# Altium integrated library Microchip Microcontroller 8-Bit PIC18.IntLib: 436 symbols (part 16 of 20)
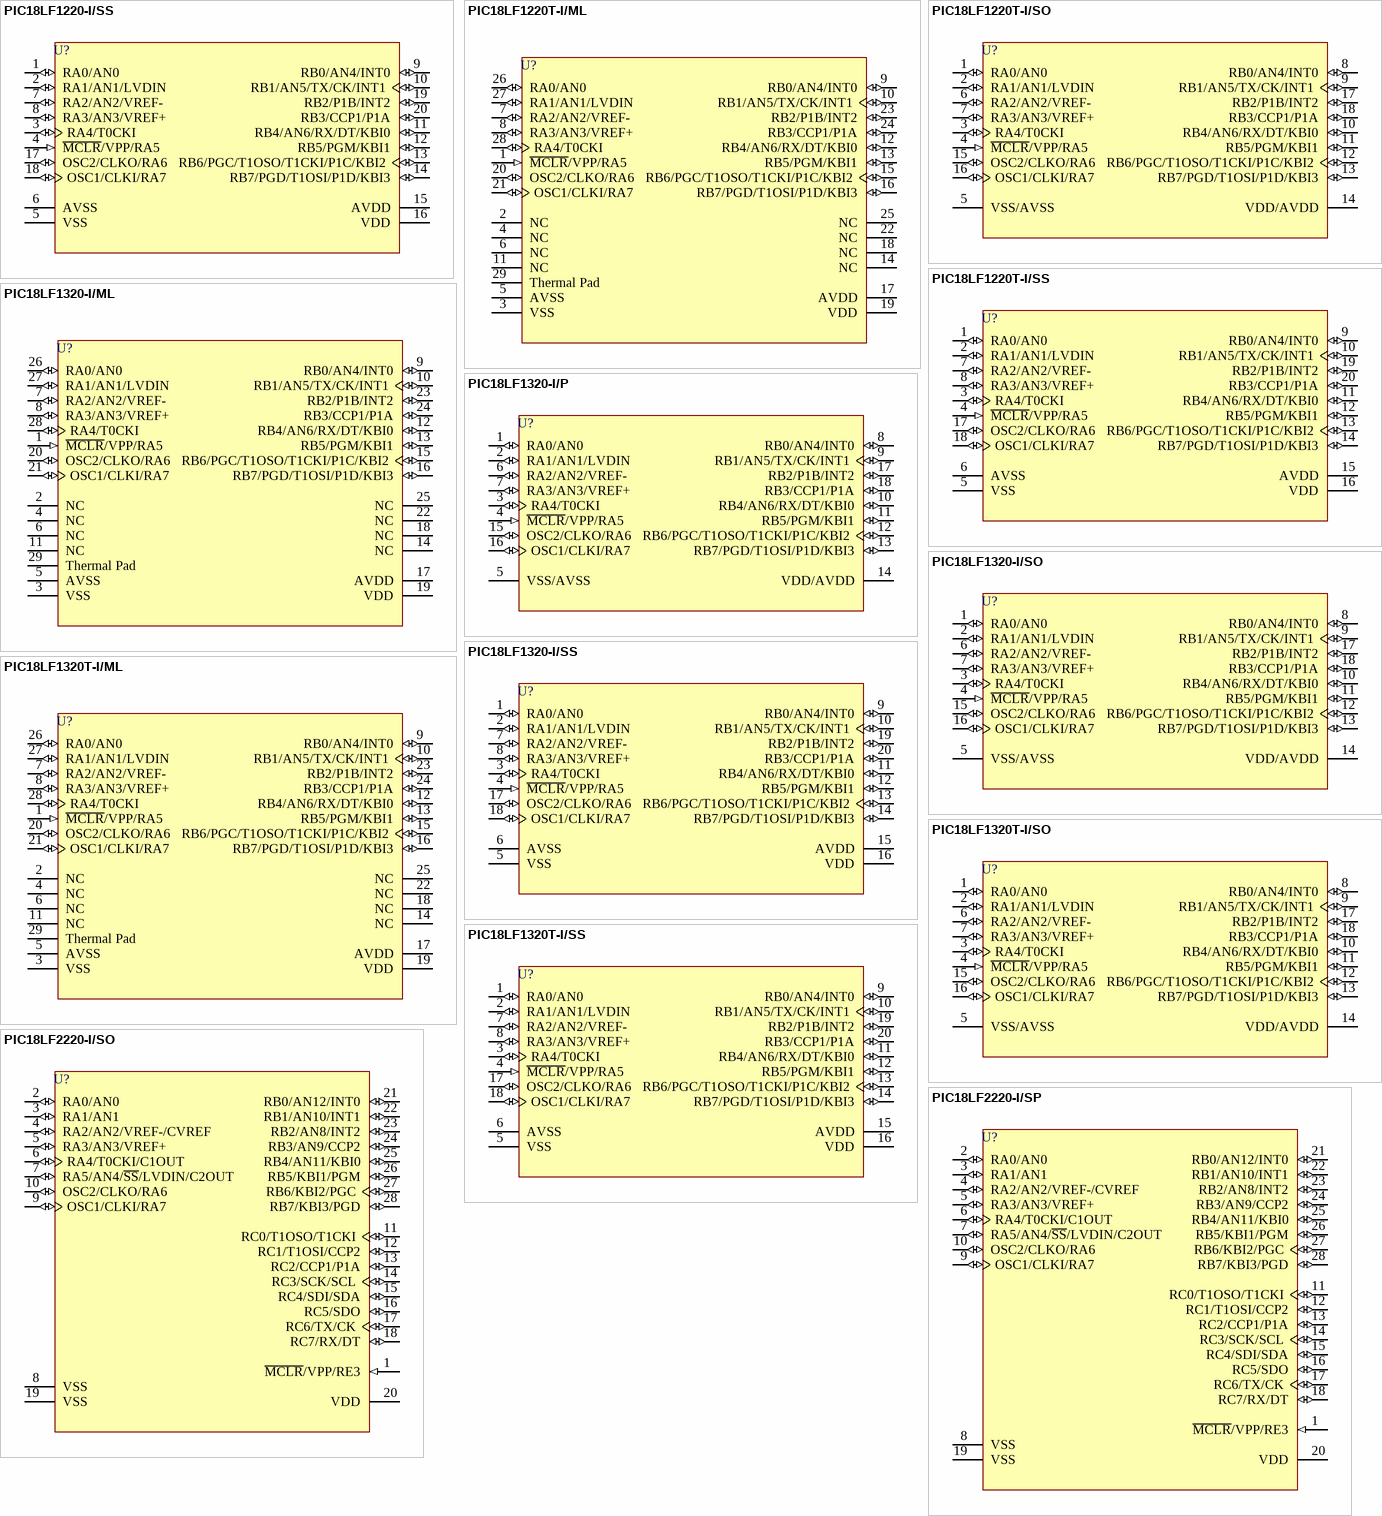
[diagram p69: symbols PIC18LF1220-I/SS to PIC18LF2220-I/SP]

## PIC18LF1220-I/SS
designator U?
High Performance, Enhanced FLASH Microcontroller with 10-Bit A/D and nanoWatt Technology, 4K FLASH, 20-Pin SSOP, Wide Volt Range, Industrial Temperature; Note: RA5 is available only when the M\C\L\R\ Resets are disabled.; Note: OSC1, OSC2, CLKI and CLKO are only available in select Oscillator modes and when these pins are not being used as digital I/O.; Published: 11-Oct-2004; LatestRevisionDate: 04-Mar-2005; LatestRevisionNote: Stylized 3D Model Added.; DatasheetVersion: DS39605B_2002; PackageVersion: 2003; PackageReference: SSOP-20; Publisher: Altium Limited; PackageDescription: SSOP, Plastic; 20 Leads; Body Width 5.3 mm; Pitch 0.65 mm; Code_JEDEC: MO-150; ComponentLink1Description: Manufacturer Link; ComponentLink1URL: http://www.microchip.com; ComponentLink2Description: Datasheet; ComponentLink2URL: http://ww1.microchip.com/downloads/en/DeviceDoc/39605b.pdf; ComponentLink3Description: Packaging Specification; ComponentLink3URL: http://ww1.microchip.com/downloads/en/PackagingSpec/00049AD.pdf
footprint SSOP-20 (SSOP, Plastic; 20 Leads; Body Width 5.3 mm; Pitch 0.65 mm)
3D model SSOP-20 (SSOP, Plastic; 20 Leads; Body Width 5.3 mm; Pitch 0.65 mm)
pins: 1 RA0/AN0 (io), 2 RA1/AN1/LVDIN (io), 3 RA4/T0CKI (io), 4 ~{MCLR}/VPP/RA5 (in), 5 VSS (power), 6 AVSS (power), 7 RA2/AN2/VREF- (io), 8 RA3/AN3/VREF+ (io), 9 RB0/AN4/INT0 (io), 10 RB1/AN5/TX/CK/INT1 (io), 11 RB4/AN6/RX/DT/KBI0 (io), 12 RB5/PGM/KBI1 (io), 13 RB6/PGC/T1OSO/T1CKI/P1C/KBI2 (io), 14 RB7/PGD/T1OSI/P1D/KBI3 (io), 15 AVDD (power), 16 VDD (power), 17 OSC2/CLKO/RA6 (io), 18 OSC1/CLKI/RA7 (io), 19 RB2/P1B/INT2 (io), 20 RB3/CCP1/P1A (io)

## PIC18LF1220T-I/ML
designator U?
High Performance, Enhanced FLASH Microcontroller with 10-Bit A/D and nanoWatt Technology, 4K FLASH, 28-Pin QFN, Wide Volt Range, Industrial Temperature, Tape and Reel; Note: RA5 is available only when the M\C\L\R\ Resets are disabled.; Note: OSC1, OSC2, CLKI and CLKO are only available in select Oscillator modes and when these pins are not being used as digital I/O.; Published: 11-Oct-2004; LatestRevisionDate: 13-Apr-2006; LatestRevisionNote: IPC-7351 Footprint Added.; DatasheetVersion: DS39605B_2002; PackageVersion: 2003; PackageReference: QFN-P28; Publisher: Altium Limited; PackageDescription: 28-Pin Punch Version Quad Flat No-Lead 0.65 mm Pitch; Code_JEDEC: MO-220; Code_IPC: QFN65P600X600-28V; ComponentLink1Description: Manufacturer Link; ComponentLink1URL: http://www.microchip.com; ComponentLink2Description: Datasheet; ComponentLink2URL: http://ww1.microchip.com/downloads/en/DeviceDoc/39605b.pdf; ComponentLink3Description: Packaging Specification; ComponentLink3URL: http://ww1.microchip.com/downloads/en/PackagingSpec/00049AD.pdf
footprint QFN-P28_N (QFN, 28-Leads, Body 6x6 mm, Pitch 0.65mm, IPC Medium Density)
footprint QFN-P28_L (QFN, 28-Leads, Body 6x6 mm, Pitch 0.65mm, IPC High Density)
footprint QFN-P28_M (QFN, 28-Leads, Body 6x6 mm, Pitch 0.65mm, IPC Low Density)
pins: 1 ~{MCLR}/VPP/RA5 (in), 2 NC, 3 VSS (power), 4 NC, 5 AVSS (power), 6 NC, 7 RA2/AN2/VREF- (io), 8 RA3/AN3/VREF+ (io), 9 RB0/AN4/INT0 (io), 10 RB1/AN5/TX/CK/INT1 (io), 11 NC, 12 RB4/AN6/RX/DT/KBI0 (io), 13 RB5/PGM/KBI1 (io), 14 NC, 15 RB6/PGC/T1OSO/T1CKI/P1C/KBI2 (io), 16 RB7/PGD/T1OSI/P1D/KBI3 (io), 17 AVDD (power), 18 NC, 19 VDD (power), 20 OSC2/CLKO/RA6 (io), 21 OSC1/CLKI/RA7 (io), 22 NC, 23 RB2/P1B/INT2 (io), 24 RB3/CCP1/P1A (io), 25 NC, 26 RA0/AN0 (io), 27 RA1/AN1/LVDIN (io), 28 RA4/T0CKI (io), 29 Thermal Pad (power)

## PIC18LF1220T-I/SO
designator U?
High Performance, Enhanced FLASH Microcontroller with 10-Bit A/D and nanoWatt Technology, 4K FLASH, 18-Pin SOIC, Wide Volt Range, Industrial Temperature, Tape and Reel; Note: RA5 is available only when the M\C\L\R\ Resets are disabled.; Note: OSC1, OSC2, CLKI and CLKO are only available in select Oscillator modes and when these pins are not being used as digital I/O.; Published: 11-Oct-2004; LatestRevisionDate: 13-Apr-2006; LatestRevisionNote: IPC-7351 Footprint Added.; DatasheetVersion: DS39605B_2002; PackageVersion: 2003; PackageReference: SOIC300-18; Publisher: Altium Limited; PackageDescription: 18-Pin Small Outline Integrated Circuit 1.27 mm Pitch; Code_JEDEC: MS-013; ComponentLink1Description: Manufacturer Link; ComponentLink1URL: http://www.microchip.com; ComponentLink2Description: Datasheet; ComponentLink2URL: http://ww1.microchip.com/downloads/en/DeviceDoc/39605b.pdf; ComponentLink3Description: Packaging Specification; ComponentLink3URL: http://ww1.microchip.com/downloads/en/PackagingSpec/00049AD.pdf
footprint SOIC300-18_N (SOIC, 18-Leads, Body 11.5x7.5mm, Pitch 1.27mm, IPC Medium Density)
footprint SOIC300-18_L (SOIC, 18-Leads, Body 11.5x7.5mm, Pitch 1.27mm, IPC High Density)
footprint SOIC300-18_M (SOIC, 18-Leads, Body 11.5x7.5mm, Pitch 1.27mm, IPC Low Density)
3D model SOIC300-18 (18-Pin Small Outline Integrated Circuit 1.27 mm Pitch)
pins: 1 RA0/AN0 (io), 2 RA1/AN1/LVDIN (io), 3 RA4/T0CKI (io), 4 ~{MCLR}/VPP/RA5 (in), 5 VSS/AVSS (power), 6 RA2/AN2/VREF- (io), 7 RA3/AN3/VREF+ (io), 8 RB0/AN4/INT0 (io), 9 RB1/AN5/TX/CK/INT1 (io), 10 RB4/AN6/RX/DT/KBI0 (io), 11 RB5/PGM/KBI1 (io), 12 RB6/PGC/T1OSO/T1CKI/P1C/KBI2 (io), 13 RB7/PGD/T1OSI/P1D/KBI3 (io), 14 VDD/AVDD (power), 15 OSC2/CLKO/RA6 (io), 16 OSC1/CLKI/RA7 (io), 17 RB2/P1B/INT2 (io), 18 RB3/CCP1/P1A (io)

## PIC18LF1220T-I/SS
designator U?
High Performance, Enhanced FLASH Microcontroller with 10-Bit A/D and nanoWatt Technology, 4K FLASH, 20-Pin SSOP, Wide Volt Range, Industrial Temperature, Tape and Reel; Note: RA5 is available only when the M\C\L\R\ Resets are disabled.; Note: OSC1, OSC2, CLKI and CLKO are only available in select Oscillator modes and when these pins are not being used as digital I/O.; Published: 11-Oct-2004; LatestRevisionDate: 04-Mar-2005; LatestRevisionNote: Stylized 3D Model Added.; DatasheetVersion: DS39605B_2002; PackageVersion: 2003; PackageReference: SSOP-20; Publisher: Altium Limited; PackageDescription: SSOP, Plastic; 20 Leads; Body Width 5.3 mm; Pitch 0.65 mm; Code_JEDEC: MO-150; ComponentLink1Description: Manufacturer Link; ComponentLink1URL: http://www.microchip.com; ComponentLink2Description: Datasheet; ComponentLink2URL: http://ww1.microchip.com/downloads/en/DeviceDoc/39605b.pdf; ComponentLink3Description: Packaging Specification; ComponentLink3URL: http://ww1.microchip.com/downloads/en/PackagingSpec/00049AD.pdf
footprint SSOP-20 (SSOP, Plastic; 20 Leads; Body Width 5.3 mm; Pitch 0.65 mm)
3D model SSOP-20 (SSOP, Plastic; 20 Leads; Body Width 5.3 mm; Pitch 0.65 mm)
pins: 1 RA0/AN0 (io), 2 RA1/AN1/LVDIN (io), 3 RA4/T0CKI (io), 4 ~{MCLR}/VPP/RA5 (in), 5 VSS (power), 6 AVSS (power), 7 RA2/AN2/VREF- (io), 8 RA3/AN3/VREF+ (io), 9 RB0/AN4/INT0 (io), 10 RB1/AN5/TX/CK/INT1 (io), 11 RB4/AN6/RX/DT/KBI0 (io), 12 RB5/PGM/KBI1 (io), 13 RB6/PGC/T1OSO/T1CKI/P1C/KBI2 (io), 14 RB7/PGD/T1OSI/P1D/KBI3 (io), 15 AVDD (power), 16 VDD (power), 17 OSC2/CLKO/RA6 (io), 18 OSC1/CLKI/RA7 (io), 19 RB2/P1B/INT2 (io), 20 RB3/CCP1/P1A (io)

## PIC18LF1320-I/ML
designator U?
High Performance, Enhanced FLASH Microcontroller with 10-Bit A/D and nanoWatt Technology, 8K FLASH, 28-Pin QFN, Wide Volt Range, Industrial Temperature; Note: RA5 is available only when the M\C\L\R\ Resets are disabled.; Note: OSC1, OSC2, CLKI and CLKO are only available in select Oscillator modes and when these pins are not being used as digital I/O.; Published: 11-Oct-2004; LatestRevisionDate: 13-Apr-2006; LatestRevisionNote: IPC-7351 Footprint Added.; DatasheetVersion: DS39605B_2002; PackageVersion: 2003; PackageReference: QFN-P28; Publisher: Altium Limited; PackageDescription: 28-Pin Punch Version Quad Flat No-Lead 0.65 mm Pitch; Code_JEDEC: MO-220; Code_IPC: QFN65P600X600-28V; ComponentLink1Description: Manufacturer Link; ComponentLink1URL: http://www.microchip.com; ComponentLink2Description: Datasheet; ComponentLink2URL: http://ww1.microchip.com/downloads/en/DeviceDoc/39605b.pdf; ComponentLink3Description: Packaging Specification; ComponentLink3URL: http://ww1.microchip.com/downloads/en/PackagingSpec/00049AD.pdf
footprint QFN-P28_N (QFN, 28-Leads, Body 6x6 mm, Pitch 0.65mm, IPC Medium Density)
footprint QFN-P28_L (QFN, 28-Leads, Body 6x6 mm, Pitch 0.65mm, IPC High Density)
footprint QFN-P28_M (QFN, 28-Leads, Body 6x6 mm, Pitch 0.65mm, IPC Low Density)
pins: 1 ~{MCLR}/VPP/RA5 (in), 2 NC, 3 VSS (power), 4 NC, 5 AVSS (power), 6 NC, 7 RA2/AN2/VREF- (io), 8 RA3/AN3/VREF+ (io), 9 RB0/AN4/INT0 (io), 10 RB1/AN5/TX/CK/INT1 (io), 11 NC, 12 RB4/AN6/RX/DT/KBI0 (io), 13 RB5/PGM/KBI1 (io), 14 NC, 15 RB6/PGC/T1OSO/T1CKI/P1C/KBI2 (io), 16 RB7/PGD/T1OSI/P1D/KBI3 (io), 17 AVDD (power), 18 NC, 19 VDD (power), 20 OSC2/CLKO/RA6 (io), 21 OSC1/CLKI/RA7 (io), 22 NC, 23 RB2/P1B/INT2 (io), 24 RB3/CCP1/P1A (io), 25 NC, 26 RA0/AN0 (io), 27 RA1/AN1/LVDIN (io), 28 RA4/T0CKI (io), 29 Thermal Pad (power)

## PIC18LF1320-I/P
designator U?
High Performance, Enhanced FLASH Microcontroller with 10-Bit A/D and nanoWatt Technology, 8K FLASH, 18-Pin PDIP, Wide Volt Range, Industrial Temperature; Note: RA5 is available only when the M\C\L\R\ Resets are disabled.; Note: OSC1, OSC2, CLKI and CLKO are only available in select Oscillator modes and when these pins are not being used as digital I/O.; Published: 11-Oct-2004; LatestRevisionDate: 04-Mar-2005; LatestRevisionNote: Stylized 3D Model Added.; DatasheetVersion: DS39605B_2002; PackageVersion: 2003; PackageReference: PDIP300-18; Publisher: Altium Limited; PackageDescription: DIP, Plastic; 18 Leads; Row Spacing 7.62 mm; Pitch 2.54 mm; Code_JEDEC: MS-001; ComponentLink1Description: Manufacturer Link; ComponentLink1URL: http://www.microchip.com; ComponentLink2Description: Datasheet; ComponentLink2URL: http://ww1.microchip.com/downloads/en/DeviceDoc/39605b.pdf; ComponentLink3Description: Packaging Specification; ComponentLink3URL: http://ww1.microchip.com/downloads/en/PackagingSpec/00049AD.pdf
footprint PDIP300-18 (DIP, Plastic; 18 Leads; Row Spacing 7.62 mm; Pitch 2.54 mm)
3D model PDIP300-18 (DIP, Plastic; 18 Leads; Row Spacing 7.62 mm; Pitch 2.54 mm)
pins: 1 RA0/AN0 (io), 2 RA1/AN1/LVDIN (io), 3 RA4/T0CKI (io), 4 ~{MCLR}/VPP/RA5 (in), 5 VSS/AVSS (power), 6 RA2/AN2/VREF- (io), 7 RA3/AN3/VREF+ (io), 8 RB0/AN4/INT0 (io), 9 RB1/AN5/TX/CK/INT1 (io), 10 RB4/AN6/RX/DT/KBI0 (io), 11 RB5/PGM/KBI1 (io), 12 RB6/PGC/T1OSO/T1CKI/P1C/KBI2 (io), 13 RB7/PGD/T1OSI/P1D/KBI3 (io), 14 VDD/AVDD (power), 15 OSC2/CLKO/RA6 (io), 16 OSC1/CLKI/RA7 (io), 17 RB2/P1B/INT2 (io), 18 RB3/CCP1/P1A (io)

## PIC18LF1320-I/SO
designator U?
High Performance, Enhanced FLASH Microcontroller with 10-Bit A/D and nanoWatt Technology, 8K FLASH, 18-Pin SOIC, Wide Volt Range, Industrial Temperature; Note: RA5 is available only when the M\C\L\R\ Resets are disabled.; Note: OSC1, OSC2, CLKI and CLKO are only available in select Oscillator modes and when these pins are not being used as digital I/O.; Published: 11-Oct-2004; LatestRevisionDate: 13-Apr-2006; LatestRevisionNote: IPC-7351 Footprint Added.; DatasheetVersion: DS39605B_2002; PackageVersion: 2003; PackageReference: SOIC300-18; Publisher: Altium Limited; PackageDescription: 18-Pin Small Outline Integrated Circuit 1.27 mm Pitch; Code_JEDEC: MS-013; ComponentLink1Description: Manufacturer Link; ComponentLink1URL: http://www.microchip.com; ComponentLink2Description: Datasheet; ComponentLink2URL: http://ww1.microchip.com/downloads/en/DeviceDoc/39605b.pdf; ComponentLink3Description: Packaging Specification; ComponentLink3URL: http://ww1.microchip.com/downloads/en/PackagingSpec/00049AD.pdf
footprint SOIC300-18_N (SOIC, 18-Leads, Body 11.5x7.5mm, Pitch 1.27mm, IPC Medium Density)
footprint SOIC300-18_L (SOIC, 18-Leads, Body 11.5x7.5mm, Pitch 1.27mm, IPC High Density)
footprint SOIC300-18_M (SOIC, 18-Leads, Body 11.5x7.5mm, Pitch 1.27mm, IPC Low Density)
3D model SOIC300-18 (18-Pin Small Outline Integrated Circuit 1.27 mm Pitch)
pins: 1 RA0/AN0 (io), 2 RA1/AN1/LVDIN (io), 3 RA4/T0CKI (io), 4 ~{MCLR}/VPP/RA5 (in), 5 VSS/AVSS (power), 6 RA2/AN2/VREF- (io), 7 RA3/AN3/VREF+ (io), 8 RB0/AN4/INT0 (io), 9 RB1/AN5/TX/CK/INT1 (io), 10 RB4/AN6/RX/DT/KBI0 (io), 11 RB5/PGM/KBI1 (io), 12 RB6/PGC/T1OSO/T1CKI/P1C/KBI2 (io), 13 RB7/PGD/T1OSI/P1D/KBI3 (io), 14 VDD/AVDD (power), 15 OSC2/CLKO/RA6 (io), 16 OSC1/CLKI/RA7 (io), 17 RB2/P1B/INT2 (io), 18 RB3/CCP1/P1A (io)

## PIC18LF1320-I/SS
designator U?
High Performance, Enhanced FLASH Microcontroller with 10-Bit A/D and nanoWatt Technology, 8K FLASH, 20-Pin SSOP, Wide Volt Range, Industrial Temperature; Note: RA5 is available only when the M\C\L\R\ Resets are disabled.; Note: OSC1, OSC2, CLKI and CLKO are only available in select Oscillator modes and when these pins are not being used as digital I/O.; Published: 11-Oct-2004; LatestRevisionDate: 04-Mar-2005; LatestRevisionNote: Stylized 3D Model Added.; DatasheetVersion: DS39605B_2002; PackageVersion: 2003; PackageReference: SSOP-20; Publisher: Altium Limited; PackageDescription: SSOP, Plastic; 20 Leads; Body Width 5.3 mm; Pitch 0.65 mm; Code_JEDEC: MO-150; ComponentLink1Description: Manufacturer Link; ComponentLink1URL: http://www.microchip.com; ComponentLink2Description: Datasheet; ComponentLink2URL: http://ww1.microchip.com/downloads/en/DeviceDoc/39605b.pdf; ComponentLink3Description: Packaging Specification; ComponentLink3URL: http://ww1.microchip.com/downloads/en/PackagingSpec/00049AD.pdf
footprint SSOP-20 (SSOP, Plastic; 20 Leads; Body Width 5.3 mm; Pitch 0.65 mm)
3D model SSOP-20 (SSOP, Plastic; 20 Leads; Body Width 5.3 mm; Pitch 0.65 mm)
pins: 1 RA0/AN0 (io), 2 RA1/AN1/LVDIN (io), 3 RA4/T0CKI (io), 4 ~{MCLR}/VPP/RA5 (in), 5 VSS (power), 6 AVSS (power), 7 RA2/AN2/VREF- (io), 8 RA3/AN3/VREF+ (io), 9 RB0/AN4/INT0 (io), 10 RB1/AN5/TX/CK/INT1 (io), 11 RB4/AN6/RX/DT/KBI0 (io), 12 RB5/PGM/KBI1 (io), 13 RB6/PGC/T1OSO/T1CKI/P1C/KBI2 (io), 14 RB7/PGD/T1OSI/P1D/KBI3 (io), 15 AVDD (power), 16 VDD (power), 17 OSC2/CLKO/RA6 (io), 18 OSC1/CLKI/RA7 (io), 19 RB2/P1B/INT2 (io), 20 RB3/CCP1/P1A (io)

## PIC18LF1320T-I/ML
designator U?
High Performance, Enhanced FLASH Microcontroller with 10-Bit A/D and nanoWatt Technology, 8K FLASH, 28-Pin QFN, Wide Volt Range, Industrial Temperature, Tape and Reel; Note: RA5 is available only when the M\C\L\R\ Resets are disabled.; Note: OSC1, OSC2, CLKI and CLKO are only available in select Oscillator modes and when these pins are not being used as digital I/O.; Published: 11-Oct-2004; LatestRevisionDate: 13-Apr-2006; LatestRevisionNote: IPC-7351 Footprint Added.; DatasheetVersion: DS39605B_2002; PackageVersion: 2003; PackageReference: QFN-P28; Publisher: Altium Limited; PackageDescription: 28-Pin Punch Version Quad Flat No-Lead 0.65 mm Pitch; Code_JEDEC: MO-220; Code_IPC: QFN65P600X600-28V; ComponentLink1Description: Manufacturer Link; ComponentLink1URL: http://www.microchip.com; ComponentLink2Description: Datasheet; ComponentLink2URL: http://ww1.microchip.com/downloads/en/DeviceDoc/39605b.pdf; ComponentLink3Description: Packaging Specification; ComponentLink3URL: http://ww1.microchip.com/downloads/en/PackagingSpec/00049AD.pdf
footprint QFN-P28_N (QFN, 28-Leads, Body 6x6 mm, Pitch 0.65mm, IPC Medium Density)
footprint QFN-P28_L (QFN, 28-Leads, Body 6x6 mm, Pitch 0.65mm, IPC High Density)
footprint QFN-P28_M (QFN, 28-Leads, Body 6x6 mm, Pitch 0.65mm, IPC Low Density)
pins: 1 ~{MCLR}/VPP/RA5 (in), 2 NC, 3 VSS (power), 4 NC, 5 AVSS (power), 6 NC, 7 RA2/AN2/VREF- (io), 8 RA3/AN3/VREF+ (io), 9 RB0/AN4/INT0 (io), 10 RB1/AN5/TX/CK/INT1 (io), 11 NC, 12 RB4/AN6/RX/DT/KBI0 (io), 13 RB5/PGM/KBI1 (io), 14 NC, 15 RB6/PGC/T1OSO/T1CKI/P1C/KBI2 (io), 16 RB7/PGD/T1OSI/P1D/KBI3 (io), 17 AVDD (power), 18 NC, 19 VDD (power), 20 OSC2/CLKO/RA6 (io), 21 OSC1/CLKI/RA7 (io), 22 NC, 23 RB2/P1B/INT2 (io), 24 RB3/CCP1/P1A (io), 25 NC, 26 RA0/AN0 (io), 27 RA1/AN1/LVDIN (io), 28 RA4/T0CKI (io), 29 Thermal Pad (power)

## PIC18LF1320T-I/SO
designator U?
High Performance, Enhanced FLASH Microcontroller with 10-Bit A/D and nanoWatt Technology, 8K FLASH, 18-Pin SOIC, Wide Volt Range, Industrial Temperature, Tape and Reel; Note: RA5 is available only when the M\C\L\R\ Resets are disabled.; Note: OSC1, OSC2, CLKI and CLKO are only available in select Oscillator modes and when these pins are not being used as digital I/O.; Published: 11-Oct-2004; LatestRevisionDate: 13-Apr-2006; LatestRevisionNote: IPC-7351 Footprint Added.; DatasheetVersion: DS39605B_2002; PackageVersion: 2003; PackageReference: SOIC300-18; Publisher: Altium Limited; PackageDescription: 18-Pin Small Outline Integrated Circuit 1.27 mm Pitch; Code_JEDEC: MS-013; ComponentLink1Description: Manufacturer Link; ComponentLink1URL: http://www.microchip.com; ComponentLink2Description: Datasheet; ComponentLink2URL: http://ww1.microchip.com/downloads/en/DeviceDoc/39605b.pdf; ComponentLink3Description: Packaging Specification; ComponentLink3URL: http://ww1.microchip.com/downloads/en/PackagingSpec/00049AD.pdf
footprint SOIC300-18_N (SOIC, 18-Leads, Body 11.5x7.5mm, Pitch 1.27mm, IPC Medium Density)
footprint SOIC300-18_L (SOIC, 18-Leads, Body 11.5x7.5mm, Pitch 1.27mm, IPC High Density)
footprint SOIC300-18_M (SOIC, 18-Leads, Body 11.5x7.5mm, Pitch 1.27mm, IPC Low Density)
3D model SOIC300-18 (18-Pin Small Outline Integrated Circuit 1.27 mm Pitch)
pins: 1 RA0/AN0 (io), 2 RA1/AN1/LVDIN (io), 3 RA4/T0CKI (io), 4 ~{MCLR}/VPP/RA5 (in), 5 VSS/AVSS (power), 6 RA2/AN2/VREF- (io), 7 RA3/AN3/VREF+ (io), 8 RB0/AN4/INT0 (io), 9 RB1/AN5/TX/CK/INT1 (io), 10 RB4/AN6/RX/DT/KBI0 (io), 11 RB5/PGM/KBI1 (io), 12 RB6/PGC/T1OSO/T1CKI/P1C/KBI2 (io), 13 RB7/PGD/T1OSI/P1D/KBI3 (io), 14 VDD/AVDD (power), 15 OSC2/CLKO/RA6 (io), 16 OSC1/CLKI/RA7 (io), 17 RB2/P1B/INT2 (io), 18 RB3/CCP1/P1A (io)

## PIC18LF1320T-I/SS
designator U?
High Performance, Enhanced FLASH Microcontroller with 10-Bit A/D and nanoWatt Technology, 8K FLASH, 20-Pin SSOP, Wide Volt Range, Industrial Temperature, Tape and Reel; Note: RA5 is available only when the M\C\L\R\ Resets are disabled.; Note: OSC1, OSC2, CLKI and CLKO are only available in select Oscillator modes and when these pins are not being used as digital I/O.; Published: 11-Oct-2004; LatestRevisionDate: 04-Mar-2005; LatestRevisionNote: Stylized 3D Model Added.; DatasheetVersion: DS39605B_2002; PackageVersion: 2003; PackageReference: SSOP-20; Publisher: Altium Limited; PackageDescription: SSOP, Plastic; 20 Leads; Body Width 5.3 mm; Pitch 0.65 mm; Code_JEDEC: MO-150; ComponentLink1Description: Manufacturer Link; ComponentLink1URL: http://www.microchip.com; ComponentLink2Description: Datasheet; ComponentLink2URL: http://ww1.microchip.com/downloads/en/DeviceDoc/39605b.pdf; ComponentLink3Description: Packaging Specification; ComponentLink3URL: http://ww1.microchip.com/downloads/en/PackagingSpec/00049AD.pdf
footprint SSOP-20 (SSOP, Plastic; 20 Leads; Body Width 5.3 mm; Pitch 0.65 mm)
3D model SSOP-20 (SSOP, Plastic; 20 Leads; Body Width 5.3 mm; Pitch 0.65 mm)
pins: 1 RA0/AN0 (io), 2 RA1/AN1/LVDIN (io), 3 RA4/T0CKI (io), 4 ~{MCLR}/VPP/RA5 (in), 5 VSS (power), 6 AVSS (power), 7 RA2/AN2/VREF- (io), 8 RA3/AN3/VREF+ (io), 9 RB0/AN4/INT0 (io), 10 RB1/AN5/TX/CK/INT1 (io), 11 RB4/AN6/RX/DT/KBI0 (io), 12 RB5/PGM/KBI1 (io), 13 RB6/PGC/T1OSO/T1CKI/P1C/KBI2 (io), 14 RB7/PGD/T1OSI/P1D/KBI3 (io), 15 AVDD (power), 16 VDD (power), 17 OSC2/CLKO/RA6 (io), 18 OSC1/CLKI/RA7 (io), 19 RB2/P1B/INT2 (io), 20 RB3/CCP1/P1A (io)

## PIC18LF2220-I/SO
designator U?
High Performance, Enhanced FLASH Microcontroller with 10-Bit A/D and nanoWatt Technology, 4K FLASH, 28-Pin SOIC, Wide Volt Range, Industrial Temperature; Note: RB3 is the alternate pin for the CCP2 pin multiplexing.; Published: 11-Oct-2004; LatestRevisionDate: 13-Apr-2006; LatestRevisionNote: IPC-7351 Footprint Added.; DatasheetVersion: DS39599C_2003; PackageVersion: 2005; PackageReference: SOIC300-28; Publisher: Altium Limited; PackageDescription: 28-Pin Small Outline Integrated Circuit 1.27 mm Pitch; Code_JEDEC: MS-013; ComponentLink1Description: Manufacturer Link; ComponentLink1URL: http://www.microchip.com; ComponentLink2Description: Datasheet; ComponentLink2URL: http://ww1.microchip.com/downloads/en/DeviceDoc/39599c.pdf; ComponentLink3Description: Packaging Specification; ComponentLink3URL: http://ww1.microchip.com/downloads/en/PackagingSpec/00049AD.pdf
footprint SOIC300-28_N (SOIC, 28-Leads, Body 17.9x7.5mm, Pitch 1.27mm, IPC Medium Density)
footprint SOIC300-28_L (SOIC, 28-Leads, Body 17.9x7.5mm, Pitch 1.27mm, IPC High Density)
footprint SOIC300-28_M (SOIC, 28-Leads, Body 17.9x7.5mm, Pitch 1.27mm, IPC Low Density)
3D model SOIC300-28 (28-Pin Small Outline Integrated Circuit 1.27 mm Pitch)
pins: 1 ~{MCLR}/VPP/RE3 (in), 2 RA0/AN0 (io), 3 RA1/AN1 (io), 4 RA2/AN2/VREF-/CVREF (io), 5 RA3/AN3/VREF+ (io), 6 RA4/T0CKI/C1OUT (io), 7 RA5/AN4/~{SS}/LVDIN/C2OUT (io), 8 VSS (power), 9 OSC1/CLKI/RA7 (io), 10 OSC2/CLKO/RA6 (io), 11 RC0/T1OSO/T1CKI (io), 12 RC1/T1OSI/CCP2 (io), 13 RC2/CCP1/P1A (io), 14 RC3/SCK/SCL (io), 15 RC4/SDI/SDA (io), 16 RC5/SDO (io), 17 RC6/TX/CK (io), 18 RC7/RX/DT (io), 19 VSS (power), 20 VDD (power), 21 RB0/AN12/INT0 (io), 22 RB1/AN10/INT1 (io), 23 RB2/AN8/INT2 (io), 24 RB3/AN9/CCP2 (io), 25 RB4/AN11/KBI0 (io), 26 RB5/KBI1/PGM (io), 27 RB6/KBI2/PGC (io), 28 RB7/KBI3/PGD (io)

## PIC18LF2220-I/SP
designator U?
High Performance, Enhanced FLASH Microcontroller with 10-Bit A/D and nanoWatt Technology, 4K FLASH, 28-Pin Skinny PDIP, Wide Volt Range, Industrial Temperature; Note: RB3 is the alternate pin for the CCP2 pin multiplexing.; Published: 11-Oct-2004; LatestRevisionDate: 04-Mar-2005; LatestRevisionNote: Stylized 3D Model Added.; DatasheetVersion: DS39599C_2003; PackageVersion: 2003; PackageReference: PDIP300-28; Publisher: Altium Limited; PackageDescription: DIP, Plastic, Skinny; 28 Leads; Row Spacing 7.62 mm; Pitch 2.54 mm; Code_JEDEC: MO-095; ComponentLink1Description: Manufacturer Link; ComponentLink1URL: http://www.microchip.com; ComponentLink2Description: Datasheet; ComponentLink2URL: http://ww1.microchip.com/downloads/en/DeviceDoc/39599c.pdf; ComponentLink3Description: Packaging Specification; ComponentLink3URL: http://ww1.microchip.com/downloads/en/PackagingSpec/00049AD.pdf
footprint PDIP300-28 (DIP, Plastic, Skinny; 28 Leads; Row Spacing 7.62 mm; Pitch 2.54 mm)
3D model PDIP300-28 (DIP, Plastic, Skinny; 28 Leads; Row Spacing 7.62 mm; Pitch 2.54 mm)
pins: 1 ~{MCLR}/VPP/RE3 (in), 2 RA0/AN0 (io), 3 RA1/AN1 (io), 4 RA2/AN2/VREF-/CVREF (io), 5 RA3/AN3/VREF+ (io), 6 RA4/T0CKI/C1OUT (io), 7 RA5/AN4/~{SS}/LVDIN/C2OUT (io), 8 VSS (power), 9 OSC1/CLKI/RA7 (io), 10 OSC2/CLKO/RA6 (io), 11 RC0/T1OSO/T1CKI (io), 12 RC1/T1OSI/CCP2 (io), 13 RC2/CCP1/P1A (io), 14 RC3/SCK/SCL (io), 15 RC4/SDI/SDA (io), 16 RC5/SDO (io), 17 RC6/TX/CK (io), 18 RC7/RX/DT (io), 19 VSS (power), 20 VDD (power), 21 RB0/AN12/INT0 (io), 22 RB1/AN10/INT1 (io), 23 RB2/AN8/INT2 (io), 24 RB3/AN9/CCP2 (io), 25 RB4/AN11/KBI0 (io), 26 RB5/KBI1/PGM (io), 27 RB6/KBI2/PGC (io), 28 RB7/KBI3/PGD (io)

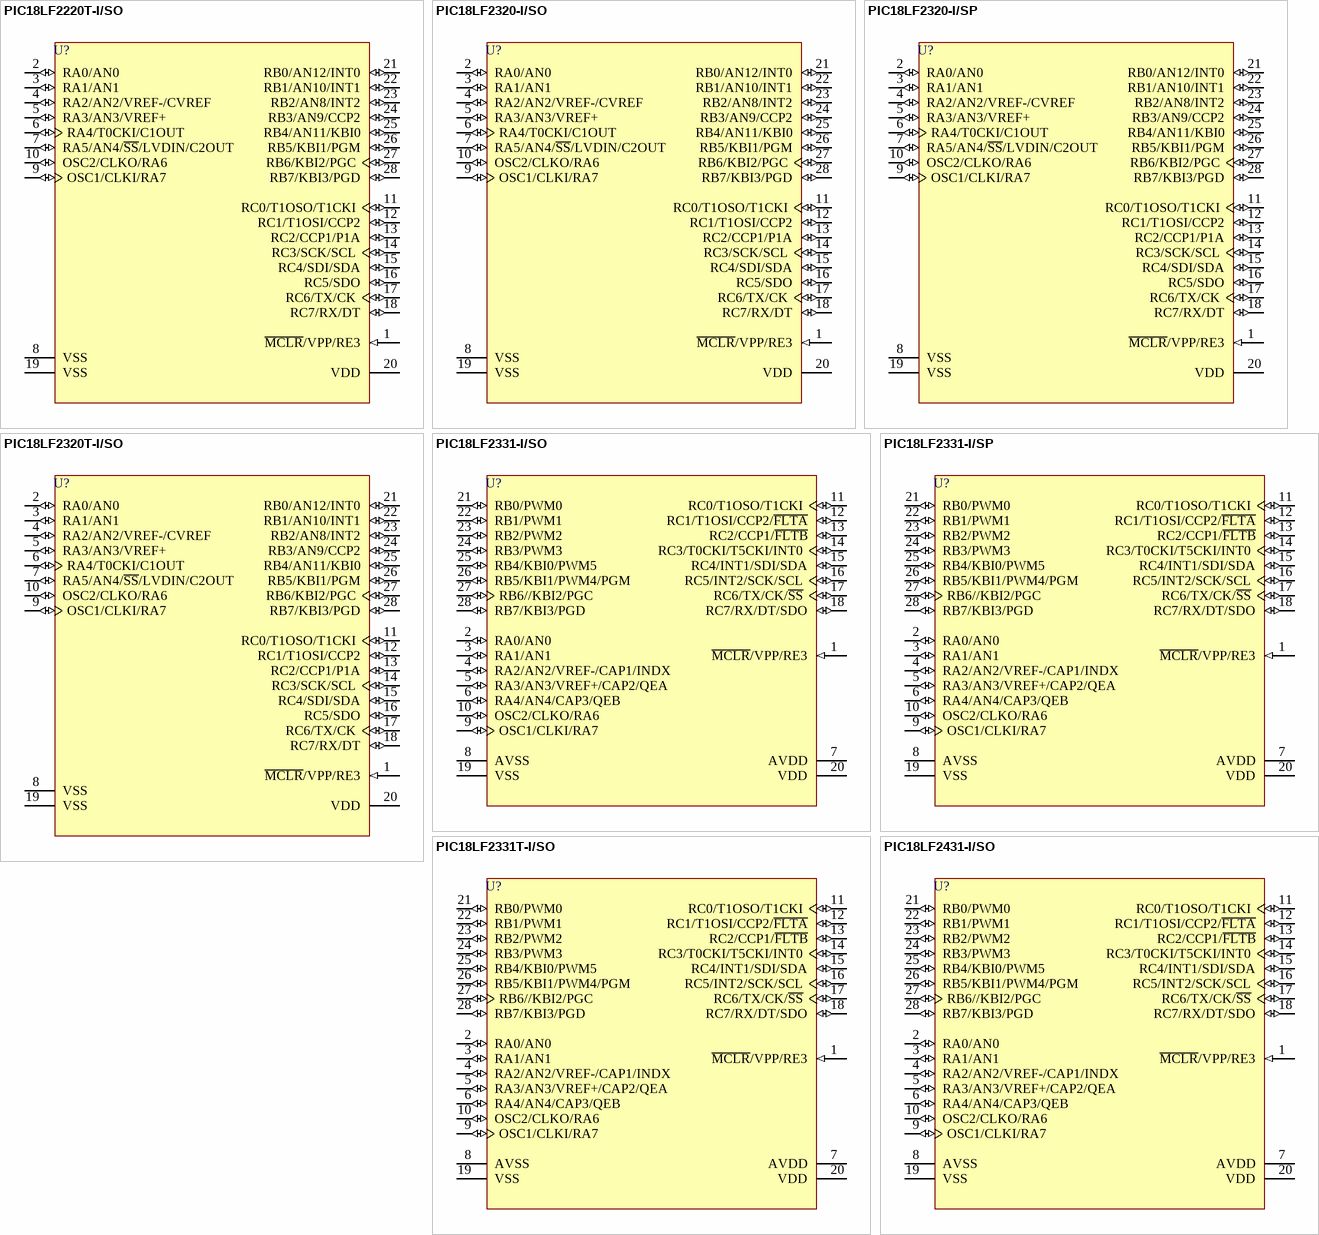
[diagram p43: symbols PIC18LF2220T-I/SO to PIC18LF2431-I/SO]

## PIC18LF2220T-I/SO
designator U?
High Performance, Enhanced FLASH Microcontroller with 10-Bit A/D and nanoWatt Technology, 4K FLASH, 28-Pin SOIC, Wide Volt Range, Industrial Temperature, Tape and Reel; Note: RB3 is the alternate pin for the CCP2 pin multiplexing.; Published: 11-Oct-2004; LatestRevisionDate: 13-Apr-2006; LatestRevisionNote: IPC-7351 Footprint Added.; DatasheetVersion: DS39599C_2003; PackageVersion: 2005; PackageReference: SOIC300-28; Publisher: Altium Limited; PackageDescription: 28-Pin Small Outline Integrated Circuit 1.27 mm Pitch; Code_JEDEC: MS-013; ComponentLink1Description: Manufacturer Link; ComponentLink1URL: http://www.microchip.com; ComponentLink2Description: Datasheet; ComponentLink2URL: http://ww1.microchip.com/downloads/en/DeviceDoc/39599c.pdf; ComponentLink3Description: Packaging Specification; ComponentLink3URL: http://ww1.microchip.com/downloads/en/PackagingSpec/00049AD.pdf
footprint SOIC300-28_N (SOIC, 28-Leads, Body 17.9x7.5mm, Pitch 1.27mm, IPC Medium Density)
footprint SOIC300-28_L (SOIC, 28-Leads, Body 17.9x7.5mm, Pitch 1.27mm, IPC High Density)
footprint SOIC300-28_M (SOIC, 28-Leads, Body 17.9x7.5mm, Pitch 1.27mm, IPC Low Density)
3D model SOIC300-28 (28-Pin Small Outline Integrated Circuit 1.27 mm Pitch)
pins: 1 ~{MCLR}/VPP/RE3 (in), 2 RA0/AN0 (io), 3 RA1/AN1 (io), 4 RA2/AN2/VREF-/CVREF (io), 5 RA3/AN3/VREF+ (io), 6 RA4/T0CKI/C1OUT (io), 7 RA5/AN4/~{SS}/LVDIN/C2OUT (io), 8 VSS (power), 9 OSC1/CLKI/RA7 (io), 10 OSC2/CLKO/RA6 (io), 11 RC0/T1OSO/T1CKI (io), 12 RC1/T1OSI/CCP2 (io), 13 RC2/CCP1/P1A (io), 14 RC3/SCK/SCL (io), 15 RC4/SDI/SDA (io), 16 RC5/SDO (io), 17 RC6/TX/CK (io), 18 RC7/RX/DT (io), 19 VSS (power), 20 VDD (power), 21 RB0/AN12/INT0 (io), 22 RB1/AN10/INT1 (io), 23 RB2/AN8/INT2 (io), 24 RB3/AN9/CCP2 (io), 25 RB4/AN11/KBI0 (io), 26 RB5/KBI1/PGM (io), 27 RB6/KBI2/PGC (io), 28 RB7/KBI3/PGD (io)

## PIC18LF2320-I/SO
designator U?
High Performance, Enhanced FLASH Microcontroller with 10-Bit A/D and nanoWatt Technology, 8K FLASH, 28-Pin SOIC, Wide Volt Range, Industrial Temperature; Note: RB3 is the alternate pin for the CCP2 pin multiplexing.; Published: 11-Oct-2004; LatestRevisionDate: 13-Apr-2006; LatestRevisionNote: IPC-7351 Footprint Added.; DatasheetVersion: DS39599C_2003; PackageVersion: 2005; PackageReference: SOIC300-28; Publisher: Altium Limited; PackageDescription: 28-Pin Small Outline Integrated Circuit 1.27 mm Pitch; Code_JEDEC: MS-013; ComponentLink1Description: Manufacturer Link; ComponentLink1URL: http://www.microchip.com; ComponentLink2Description: Datasheet; ComponentLink2URL: http://ww1.microchip.com/downloads/en/DeviceDoc/39599c.pdf; ComponentLink3Description: Packaging Specification; ComponentLink3URL: http://ww1.microchip.com/downloads/en/PackagingSpec/00049AD.pdf
footprint SOIC300-28_N (SOIC, 28-Leads, Body 17.9x7.5mm, Pitch 1.27mm, IPC Medium Density)
footprint SOIC300-28_L (SOIC, 28-Leads, Body 17.9x7.5mm, Pitch 1.27mm, IPC High Density)
footprint SOIC300-28_M (SOIC, 28-Leads, Body 17.9x7.5mm, Pitch 1.27mm, IPC Low Density)
3D model SOIC300-28 (28-Pin Small Outline Integrated Circuit 1.27 mm Pitch)
pins: 1 ~{MCLR}/VPP/RE3 (in), 2 RA0/AN0 (io), 3 RA1/AN1 (io), 4 RA2/AN2/VREF-/CVREF (io), 5 RA3/AN3/VREF+ (io), 6 RA4/T0CKI/C1OUT (io), 7 RA5/AN4/~{SS}/LVDIN/C2OUT (io), 8 VSS (power), 9 OSC1/CLKI/RA7 (io), 10 OSC2/CLKO/RA6 (io), 11 RC0/T1OSO/T1CKI (io), 12 RC1/T1OSI/CCP2 (io), 13 RC2/CCP1/P1A (io), 14 RC3/SCK/SCL (io), 15 RC4/SDI/SDA (io), 16 RC5/SDO (io), 17 RC6/TX/CK (io), 18 RC7/RX/DT (io), 19 VSS (power), 20 VDD (power), 21 RB0/AN12/INT0 (io), 22 RB1/AN10/INT1 (io), 23 RB2/AN8/INT2 (io), 24 RB3/AN9/CCP2 (io), 25 RB4/AN11/KBI0 (io), 26 RB5/KBI1/PGM (io), 27 RB6/KBI2/PGC (io), 28 RB7/KBI3/PGD (io)

## PIC18LF2320-I/SP
designator U?
High Performance, Enhanced FLASH Microcontroller with 10-Bit A/D and nanoWatt Technology, 8K FLASH, 28-Pin Skinny PDIP, Wide Volt Range, Industrial Temperature; Note: RB3 is the alternate pin for the CCP2 pin multiplexing.; Published: 11-Oct-2004; LatestRevisionDate: 04-Mar-2005; LatestRevisionNote: Stylized 3D Model Added.; DatasheetVersion: DS39599C_2003; PackageVersion: 2003; PackageReference: PDIP300-28; Publisher: Altium Limited; PackageDescription: DIP, Plastic, Skinny; 28 Leads; Row Spacing 7.62 mm; Pitch 2.54 mm; Code_JEDEC: MO-095; ComponentLink1Description: Manufacturer Link; ComponentLink1URL: http://www.microchip.com; ComponentLink2Description: Datasheet; ComponentLink2URL: http://ww1.microchip.com/downloads/en/DeviceDoc/39599c.pdf; ComponentLink3Description: Packaging Specification; ComponentLink3URL: http://ww1.microchip.com/downloads/en/PackagingSpec/00049AD.pdf
footprint PDIP300-28 (DIP, Plastic, Skinny; 28 Leads; Row Spacing 7.62 mm; Pitch 2.54 mm)
3D model PDIP300-28 (DIP, Plastic, Skinny; 28 Leads; Row Spacing 7.62 mm; Pitch 2.54 mm)
pins: 1 ~{MCLR}/VPP/RE3 (in), 2 RA0/AN0 (io), 3 RA1/AN1 (io), 4 RA2/AN2/VREF-/CVREF (io), 5 RA3/AN3/VREF+ (io), 6 RA4/T0CKI/C1OUT (io), 7 RA5/AN4/~{SS}/LVDIN/C2OUT (io), 8 VSS (power), 9 OSC1/CLKI/RA7 (io), 10 OSC2/CLKO/RA6 (io), 11 RC0/T1OSO/T1CKI (io), 12 RC1/T1OSI/CCP2 (io), 13 RC2/CCP1/P1A (io), 14 RC3/SCK/SCL (io), 15 RC4/SDI/SDA (io), 16 RC5/SDO (io), 17 RC6/TX/CK (io), 18 RC7/RX/DT (io), 19 VSS (power), 20 VDD (power), 21 RB0/AN12/INT0 (io), 22 RB1/AN10/INT1 (io), 23 RB2/AN8/INT2 (io), 24 RB3/AN9/CCP2 (io), 25 RB4/AN11/KBI0 (io), 26 RB5/KBI1/PGM (io), 27 RB6/KBI2/PGC (io), 28 RB7/KBI3/PGD (io)

## PIC18LF2320T-I/SO
designator U?
High Performance, Enhanced FLASH Microcontroller with 10-Bit A/D and nanoWatt Technology, 8K FLASH, 28-Pin SOIC, Wide Volt Range, Industrial Temperature, Tape and Reel; Note: RB3 is the alternate pin for the CCP2 pin multiplexing.; Published: 11-Oct-2004; LatestRevisionDate: 13-Apr-2006; LatestRevisionNote: IPC-7351 Footprint Added.; DatasheetVersion: DS39599C_2003; PackageVersion: 2005; PackageReference: SOIC300-28; Publisher: Altium Limited; PackageDescription: 28-Pin Small Outline Integrated Circuit 1.27 mm Pitch; Code_JEDEC: MS-013; ComponentLink1Description: Manufacturer Link; ComponentLink1URL: http://www.microchip.com; ComponentLink2Description: Datasheet; ComponentLink2URL: http://ww1.microchip.com/downloads/en/DeviceDoc/39599c.pdf; ComponentLink3Description: Packaging Specification; ComponentLink3URL: http://ww1.microchip.com/downloads/en/PackagingSpec/00049AD.pdf
footprint SOIC300-28_N (SOIC, 28-Leads, Body 17.9x7.5mm, Pitch 1.27mm, IPC Medium Density)
footprint SOIC300-28_L (SOIC, 28-Leads, Body 17.9x7.5mm, Pitch 1.27mm, IPC High Density)
footprint SOIC300-28_M (SOIC, 28-Leads, Body 17.9x7.5mm, Pitch 1.27mm, IPC Low Density)
3D model SOIC300-28 (28-Pin Small Outline Integrated Circuit 1.27 mm Pitch)
pins: 1 ~{MCLR}/VPP/RE3 (in), 2 RA0/AN0 (io), 3 RA1/AN1 (io), 4 RA2/AN2/VREF-/CVREF (io), 5 RA3/AN3/VREF+ (io), 6 RA4/T0CKI/C1OUT (io), 7 RA5/AN4/~{SS}/LVDIN/C2OUT (io), 8 VSS (power), 9 OSC1/CLKI/RA7 (io), 10 OSC2/CLKO/RA6 (io), 11 RC0/T1OSO/T1CKI (io), 12 RC1/T1OSI/CCP2 (io), 13 RC2/CCP1/P1A (io), 14 RC3/SCK/SCL (io), 15 RC4/SDI/SDA (io), 16 RC5/SDO (io), 17 RC6/TX/CK (io), 18 RC7/RX/DT (io), 19 VSS (power), 20 VDD (power), 21 RB0/AN12/INT0 (io), 22 RB1/AN10/INT1 (io), 23 RB2/AN8/INT2 (io), 24 RB3/AN9/CCP2 (io), 25 RB4/AN11/KBI0 (io), 26 RB5/KBI1/PGM (io), 27 RB6/KBI2/PGC (io), 28 RB7/KBI3/PGD (io)

## PIC18LF2331-I/SO
designator U?
Enhanced FLASH Microcontroller with nanoWatt Technology, High Performance PWM and A/D, 8K FLASH, 28-Pin SOIC, Wide Volt Range, Industrial Temperature; Note: Low Voltage programming must be enabled (Pin#26).; Published: 11-Oct-2004; LatestRevisionDate: 13-Apr-2006; LatestRevisionNote: IPC-7351 Footprint Added.; DatasheetVersion: DS39616B_2003; PackageVersion: 2005; PackageReference: SOIC300-28; Publisher: Altium Limited; PackageDescription: 28-Pin Small Outline Integrated Circuit 1.27 mm Pitch; Code_JEDEC: MS-013; ComponentLink1Description: Manufacturer Link; ComponentLink1URL: http://www.microchip.com; ComponentLink2Description: Datasheet; ComponentLink2URL: http://ww1.microchip.com/downloads/en/DeviceDoc/39616b.pdf; ComponentLink3Description: Packaging Specification; ComponentLink3URL: http://ww1.microchip.com/downloads/en/PackagingSpec/00049AD.pdf
footprint SOIC300-28_N (SOIC, 28-Leads, Body 17.9x7.5mm, Pitch 1.27mm, IPC Medium Density)
footprint SOIC300-28_L (SOIC, 28-Leads, Body 17.9x7.5mm, Pitch 1.27mm, IPC High Density)
footprint SOIC300-28_M (SOIC, 28-Leads, Body 17.9x7.5mm, Pitch 1.27mm, IPC Low Density)
3D model SOIC300-28 (28-Pin Small Outline Integrated Circuit 1.27 mm Pitch)
pins: 1 ~{MCLR}/VPP/RE3 (in), 2 RA0/AN0 (io), 3 RA1/AN1 (io), 4 RA2/AN2/VREF-/CAP1/INDX (io), 5 RA3/AN3/VREF+/CAP2/QEA (io), 6 RA4/AN4/CAP3/QEB (io), 7 AVDD (power), 8 AVSS (power), 9 OSC1/CLKI/RA7 (io), 10 OSC2/CLKO/RA6 (io), 11 RC0/T1OSO/T1CKI (io), 12 RC1/T1OSI/CCP2/~{FLTA} (io), 13 RC2/CCP1/~{FLTB} (io), 14 RC3/T0CKI/T5CKI/INT0 (io), 15 RC4/INT1/SDI/SDA (io), 16 RC5/INT2/SCK/SCL (io), 17 RC6/TX/CK/~{SS} (io), 18 RC7/RX/DT/SDO (io), 19 VSS (power), 20 VDD (power), 21 RB0/PWM0 (io), 22 RB1/PWM1 (io), 23 RB2/PWM2 (io), 24 RB3/PWM3 (io), 25 RB4/KBI0/PWM5 (io), 26 RB5/KBI1/PWM4/PGM (io), 27 RB6//KBI2/PGC (io), 28 RB7/KBI3/PGD (io)

## PIC18LF2331-I/SP
designator U?
Enhanced FLASH Microcontroller with nanoWatt Technology, High Performance PWM and A/D, 8K FLASH, 28-Pin Skinny PDIP, Wide Volt Range, Industrial Temperature; Note: Low Voltage programming must be enabled (Pin#26).; Published: 11-Oct-2004; LatestRevisionDate: 04-Mar-2005; LatestRevisionNote: Stylized 3D Model Added.; DatasheetVersion: DS39616B_2003; PackageVersion: 2003; PackageReference: PDIP300-28; Publisher: Altium Limited; PackageDescription: DIP, Plastic, Skinny; 28 Leads; Row Spacing 7.62 mm; Pitch 2.54 mm; Code_JEDEC: MO-095; ComponentLink1Description: Manufacturer Link; ComponentLink1URL: http://www.microchip.com; ComponentLink2Description: Datasheet; ComponentLink2URL: http://ww1.microchip.com/downloads/en/DeviceDoc/39616b.pdf; ComponentLink3Description: Packaging Specification; ComponentLink3URL: http://ww1.microchip.com/downloads/en/PackagingSpec/00049AD.pdf
footprint PDIP300-28 (DIP, Plastic, Skinny; 28 Leads; Row Spacing 7.62 mm; Pitch 2.54 mm)
3D model PDIP300-28 (DIP, Plastic, Skinny; 28 Leads; Row Spacing 7.62 mm; Pitch 2.54 mm)
pins: 1 ~{MCLR}/VPP/RE3 (in), 2 RA0/AN0 (io), 3 RA1/AN1 (io), 4 RA2/AN2/VREF-/CAP1/INDX (io), 5 RA3/AN3/VREF+/CAP2/QEA (io), 6 RA4/AN4/CAP3/QEB (io), 7 AVDD (power), 8 AVSS (power), 9 OSC1/CLKI/RA7 (io), 10 OSC2/CLKO/RA6 (io), 11 RC0/T1OSO/T1CKI (io), 12 RC1/T1OSI/CCP2/~{FLTA} (io), 13 RC2/CCP1/~{FLTB} (io), 14 RC3/T0CKI/T5CKI/INT0 (io), 15 RC4/INT1/SDI/SDA (io), 16 RC5/INT2/SCK/SCL (io), 17 RC6/TX/CK/~{SS} (io), 18 RC7/RX/DT/SDO (io), 19 VSS (power), 20 VDD (power), 21 RB0/PWM0 (io), 22 RB1/PWM1 (io), 23 RB2/PWM2 (io), 24 RB3/PWM3 (io), 25 RB4/KBI0/PWM5 (io), 26 RB5/KBI1/PWM4/PGM (io), 27 RB6//KBI2/PGC (io), 28 RB7/KBI3/PGD (io)

## PIC18LF2331T-I/SO
designator U?
Enhanced FLASH Microcontroller with nanoWatt Technology, High Performance PWM and A/D, 8K FLASH, 28-Pin SOIC, Wide Volt Range, Industrial Temperature, Tape and Reel; Note: Low Voltage programming must be enabled (Pin#26).; Published: 11-Oct-2004; LatestRevisionDate: 13-Apr-2006; LatestRevisionNote: IPC-7351 Footprint Added.; DatasheetVersion: DS39616B_2003; PackageVersion: 2005; PackageReference: SOIC300-28; Publisher: Altium Limited; PackageDescription: 28-Pin Small Outline Integrated Circuit 1.27 mm Pitch; Code_JEDEC: MS-013; ComponentLink1Description: Manufacturer Link; ComponentLink1URL: http://www.microchip.com; ComponentLink2Description: Datasheet; ComponentLink2URL: http://ww1.microchip.com/downloads/en/DeviceDoc/39616b.pdf; ComponentLink3Description: Packaging Specification; ComponentLink3URL: http://ww1.microchip.com/downloads/en/PackagingSpec/00049AD.pdf
footprint SOIC300-28_N (SOIC, 28-Leads, Body 17.9x7.5mm, Pitch 1.27mm, IPC Medium Density)
footprint SOIC300-28_L (SOIC, 28-Leads, Body 17.9x7.5mm, Pitch 1.27mm, IPC High Density)
footprint SOIC300-28_M (SOIC, 28-Leads, Body 17.9x7.5mm, Pitch 1.27mm, IPC Low Density)
3D model SOIC300-28 (28-Pin Small Outline Integrated Circuit 1.27 mm Pitch)
pins: 1 ~{MCLR}/VPP/RE3 (in), 2 RA0/AN0 (io), 3 RA1/AN1 (io), 4 RA2/AN2/VREF-/CAP1/INDX (io), 5 RA3/AN3/VREF+/CAP2/QEA (io), 6 RA4/AN4/CAP3/QEB (io), 7 AVDD (power), 8 AVSS (power), 9 OSC1/CLKI/RA7 (io), 10 OSC2/CLKO/RA6 (io), 11 RC0/T1OSO/T1CKI (io), 12 RC1/T1OSI/CCP2/~{FLTA} (io), 13 RC2/CCP1/~{FLTB} (io), 14 RC3/T0CKI/T5CKI/INT0 (io), 15 RC4/INT1/SDI/SDA (io), 16 RC5/INT2/SCK/SCL (io), 17 RC6/TX/CK/~{SS} (io), 18 RC7/RX/DT/SDO (io), 19 VSS (power), 20 VDD (power), 21 RB0/PWM0 (io), 22 RB1/PWM1 (io), 23 RB2/PWM2 (io), 24 RB3/PWM3 (io), 25 RB4/KBI0/PWM5 (io), 26 RB5/KBI1/PWM4/PGM (io), 27 RB6//KBI2/PGC (io), 28 RB7/KBI3/PGD (io)

## PIC18LF2431-I/SO
designator U?
Enhanced FLASH Microcontroller with nanoWatt Technology, High Performance PWM and A/D, 16K FLASH, 28-Pin SOIC, Wide Volt Range, Industrial Temperature; Note: Low Voltage programming must be enabled (Pin#26).; Published: 11-Oct-2004; LatestRevisionDate: 13-Apr-2006; LatestRevisionNote: IPC-7351 Footprint Added.; DatasheetVersion: DS39616B_2003; PackageVersion: 2005; PackageReference: SOIC300-28; Publisher: Altium Limited; PackageDescription: 28-Pin Small Outline Integrated Circuit 1.27 mm Pitch; Code_JEDEC: MS-013; ComponentLink1Description: Manufacturer Link; ComponentLink1URL: http://www.microchip.com; ComponentLink2Description: Datasheet; ComponentLink2URL: http://ww1.microchip.com/downloads/en/DeviceDoc/39616b.pdf; ComponentLink3Description: Packaging Specification; ComponentLink3URL: http://ww1.microchip.com/downloads/en/PackagingSpec/00049AD.pdf
footprint SOIC300-28_N (SOIC, 28-Leads, Body 17.9x7.5mm, Pitch 1.27mm, IPC Medium Density)
footprint SOIC300-28_L (SOIC, 28-Leads, Body 17.9x7.5mm, Pitch 1.27mm, IPC High Density)
footprint SOIC300-28_M (SOIC, 28-Leads, Body 17.9x7.5mm, Pitch 1.27mm, IPC Low Density)
3D model SOIC300-28 (28-Pin Small Outline Integrated Circuit 1.27 mm Pitch)
pins: 1 ~{MCLR}/VPP/RE3 (in), 2 RA0/AN0 (io), 3 RA1/AN1 (io), 4 RA2/AN2/VREF-/CAP1/INDX (io), 5 RA3/AN3/VREF+/CAP2/QEA (io), 6 RA4/AN4/CAP3/QEB (io), 7 AVDD (power), 8 AVSS (power), 9 OSC1/CLKI/RA7 (io), 10 OSC2/CLKO/RA6 (io), 11 RC0/T1OSO/T1CKI (io), 12 RC1/T1OSI/CCP2/~{FLTA} (io), 13 RC2/CCP1/~{FLTB} (io), 14 RC3/T0CKI/T5CKI/INT0 (io), 15 RC4/INT1/SDI/SDA (io), 16 RC5/INT2/SCK/SCL (io), 17 RC6/TX/CK/~{SS} (io), 18 RC7/RX/DT/SDO (io), 19 VSS (power), 20 VDD (power), 21 RB0/PWM0 (io), 22 RB1/PWM1 (io), 23 RB2/PWM2 (io), 24 RB3/PWM3 (io), 25 RB4/KBI0/PWM5 (io), 26 RB5/KBI1/PWM4/PGM (io), 27 RB6//KBI2/PGC (io), 28 RB7/KBI3/PGD (io)

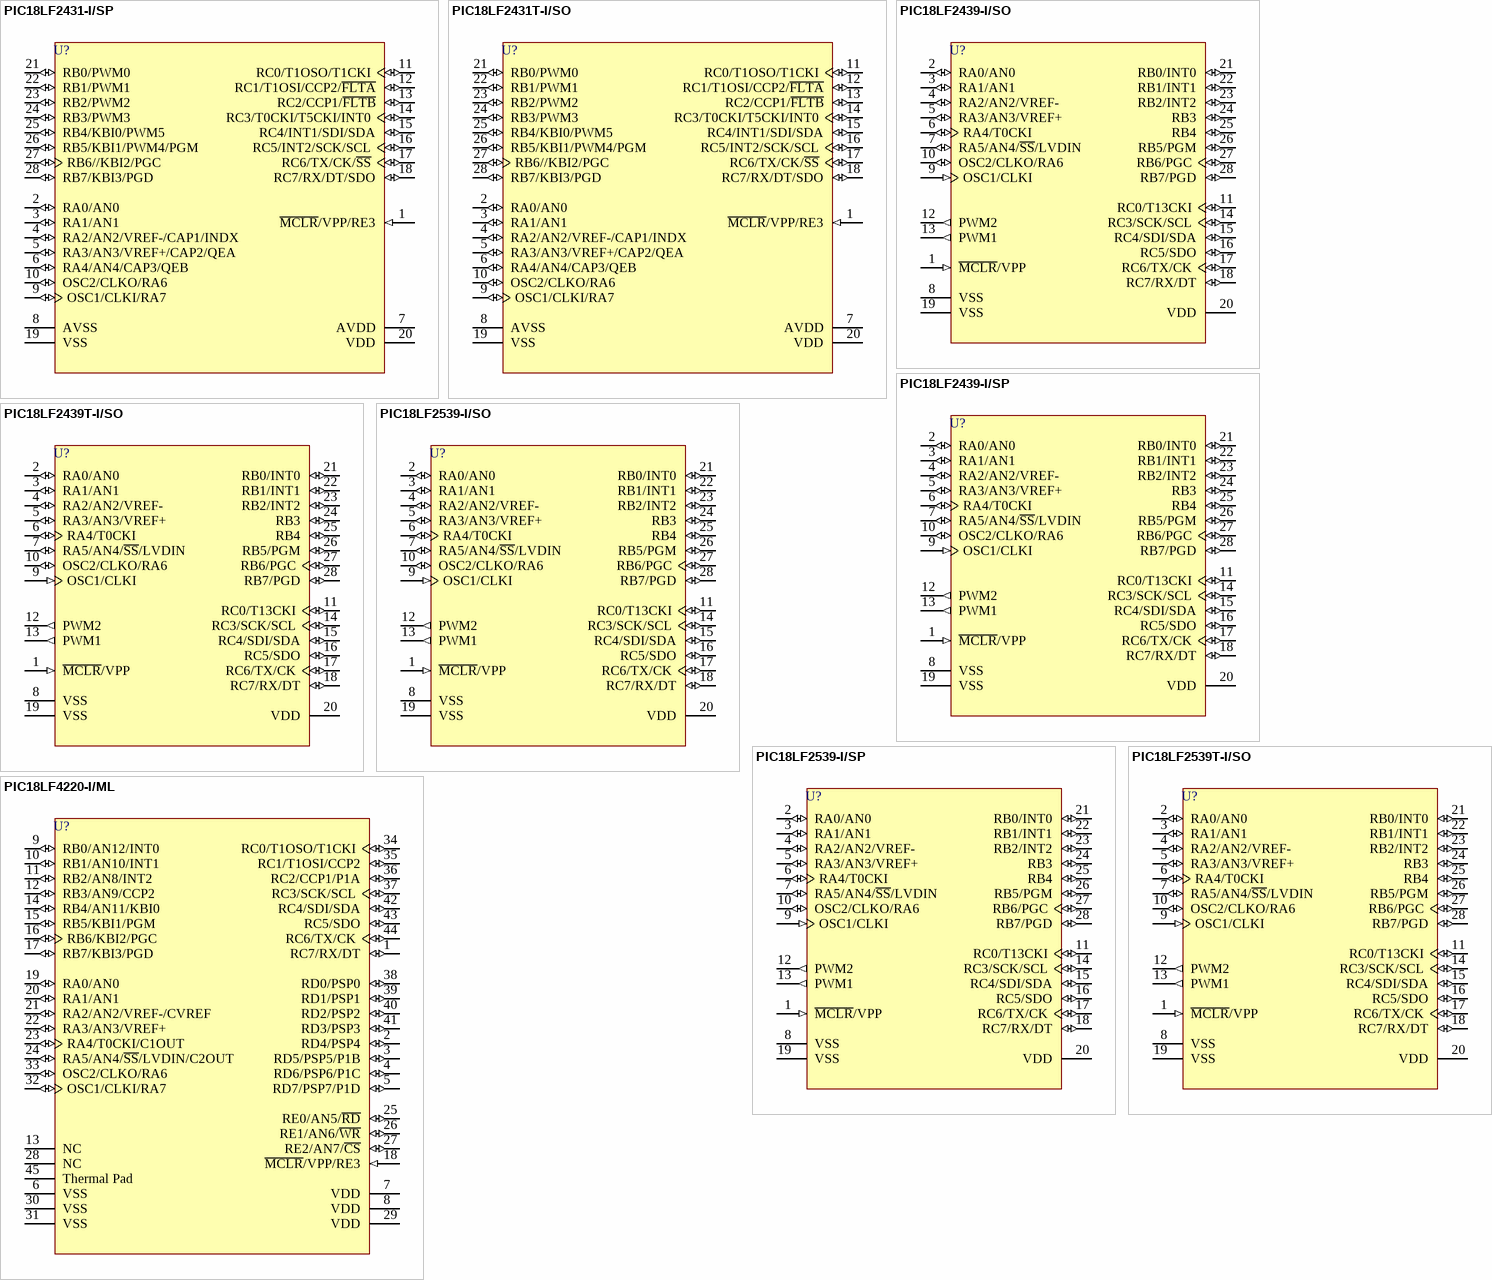
[diagram p44: symbols PIC18LF2431-I/SP to PIC18LF4220-I/ML]

## PIC18LF2431-I/SP
designator U?
Enhanced FLASH Microcontroller with nanoWatt Technology, High Performance PWM and A/D, 16K FLASH, 28-Pin Skinny PDIP, Wide Volt Range, Industrial Temperature; Note: Low Voltage programming must be enabled (Pin#26).; Published: 11-Oct-2004; LatestRevisionDate: 04-Mar-2005; LatestRevisionNote: Stylized 3D Model Added.; DatasheetVersion: DS39616B_2003; PackageVersion: 2003; PackageReference: PDIP300-28; Publisher: Altium Limited; PackageDescription: DIP, Plastic, Skinny; 28 Leads; Row Spacing 7.62 mm; Pitch 2.54 mm; Code_JEDEC: MO-095; ComponentLink1Description: Manufacturer Link; ComponentLink1URL: http://www.microchip.com; ComponentLink2Description: Datasheet; ComponentLink2URL: http://ww1.microchip.com/downloads/en/DeviceDoc/39616b.pdf; ComponentLink3Description: Packaging Specification; ComponentLink3URL: http://ww1.microchip.com/downloads/en/PackagingSpec/00049AD.pdf
footprint PDIP300-28 (DIP, Plastic, Skinny; 28 Leads; Row Spacing 7.62 mm; Pitch 2.54 mm)
3D model PDIP300-28 (DIP, Plastic, Skinny; 28 Leads; Row Spacing 7.62 mm; Pitch 2.54 mm)
pins: 1 ~{MCLR}/VPP/RE3 (in), 2 RA0/AN0 (io), 3 RA1/AN1 (io), 4 RA2/AN2/VREF-/CAP1/INDX (io), 5 RA3/AN3/VREF+/CAP2/QEA (io), 6 RA4/AN4/CAP3/QEB (io), 7 AVDD (power), 8 AVSS (power), 9 OSC1/CLKI/RA7 (io), 10 OSC2/CLKO/RA6 (io), 11 RC0/T1OSO/T1CKI (io), 12 RC1/T1OSI/CCP2/~{FLTA} (io), 13 RC2/CCP1/~{FLTB} (io), 14 RC3/T0CKI/T5CKI/INT0 (io), 15 RC4/INT1/SDI/SDA (io), 16 RC5/INT2/SCK/SCL (io), 17 RC6/TX/CK/~{SS} (io), 18 RC7/RX/DT/SDO (io), 19 VSS (power), 20 VDD (power), 21 RB0/PWM0 (io), 22 RB1/PWM1 (io), 23 RB2/PWM2 (io), 24 RB3/PWM3 (io), 25 RB4/KBI0/PWM5 (io), 26 RB5/KBI1/PWM4/PGM (io), 27 RB6//KBI2/PGC (io), 28 RB7/KBI3/PGD (io)

## PIC18LF2431T-I/SO
designator U?
Enhanced FLASH Microcontroller with nanoWatt Technology, High Performance PWM and A/D, 16K FLASH, 28-Pin SOIC, Wide Volt Range, Industrial Temperature, Tape and Reel; Note: Low Voltage programming must be enabled (Pin#26).; Published: 11-Oct-2004; LatestRevisionDate: 13-Apr-2006; LatestRevisionNote: IPC-7351 Footprint Added.; DatasheetVersion: DS39616B_2003; PackageVersion: 2005; PackageReference: SOIC300-28; Publisher: Altium Limited; PackageDescription: 28-Pin Small Outline Integrated Circuit 1.27 mm Pitch; Code_JEDEC: MS-013; ComponentLink1Description: Manufacturer Link; ComponentLink1URL: http://www.microchip.com; ComponentLink2Description: Datasheet; ComponentLink2URL: http://ww1.microchip.com/downloads/en/DeviceDoc/39616b.pdf; ComponentLink3Description: Packaging Specification; ComponentLink3URL: http://ww1.microchip.com/downloads/en/PackagingSpec/00049AD.pdf
footprint SOIC300-28_N (SOIC, 28-Leads, Body 17.9x7.5mm, Pitch 1.27mm, IPC Medium Density)
footprint SOIC300-28_L (SOIC, 28-Leads, Body 17.9x7.5mm, Pitch 1.27mm, IPC High Density)
footprint SOIC300-28_M (SOIC, 28-Leads, Body 17.9x7.5mm, Pitch 1.27mm, IPC Low Density)
3D model SOIC300-28 (28-Pin Small Outline Integrated Circuit 1.27 mm Pitch)
pins: 1 ~{MCLR}/VPP/RE3 (in), 2 RA0/AN0 (io), 3 RA1/AN1 (io), 4 RA2/AN2/VREF-/CAP1/INDX (io), 5 RA3/AN3/VREF+/CAP2/QEA (io), 6 RA4/AN4/CAP3/QEB (io), 7 AVDD (power), 8 AVSS (power), 9 OSC1/CLKI/RA7 (io), 10 OSC2/CLKO/RA6 (io), 11 RC0/T1OSO/T1CKI (io), 12 RC1/T1OSI/CCP2/~{FLTA} (io), 13 RC2/CCP1/~{FLTB} (io), 14 RC3/T0CKI/T5CKI/INT0 (io), 15 RC4/INT1/SDI/SDA (io), 16 RC5/INT2/SCK/SCL (io), 17 RC6/TX/CK/~{SS} (io), 18 RC7/RX/DT/SDO (io), 19 VSS (power), 20 VDD (power), 21 RB0/PWM0 (io), 22 RB1/PWM1 (io), 23 RB2/PWM2 (io), 24 RB3/PWM3 (io), 25 RB4/KBI0/PWM5 (io), 26 RB5/KBI1/PWM4/PGM (io), 27 RB6//KBI2/PGC (io), 28 RB7/KBI3/PGD (io)

## PIC18LF2439-I/SO
designator U?
Enhanced FLASH Microcontroller with Single Phase Induction Motor Control Kernel, 12K FLASH, 28-Pin SOIC, Wide Volt Range, Industrial Temperature; Published: 11-Oct-2004; LatestRevisionDate: 13-Apr-2006; LatestRevisionNote: IPC-7351 Footprint Added.; DatasheetVersion: DS30485A_2002; PackageVersion: 2005; PackageReference: SOIC300-28; Publisher: Altium Limited; PackageDescription: 28-Pin Small Outline Integrated Circuit 1.27 mm Pitch; Code_JEDEC: MS-013; ComponentLink1Description: Manufacturer Link; ComponentLink1URL: http://www.microchip.com; ComponentLink2Description: Datasheet; ComponentLink2URL: http://ww1.microchip.com/downloads/en/DeviceDoc/30485a.pdf; ComponentLink3Description: Packaging Specification; ComponentLink3URL: http://ww1.microchip.com/downloads/en/PackagingSpec/00049AD.pdf
footprint SOIC300-28_N (SOIC, 28-Leads, Body 17.9x7.5mm, Pitch 1.27mm, IPC Medium Density)
footprint SOIC300-28_L (SOIC, 28-Leads, Body 17.9x7.5mm, Pitch 1.27mm, IPC High Density)
footprint SOIC300-28_M (SOIC, 28-Leads, Body 17.9x7.5mm, Pitch 1.27mm, IPC Low Density)
3D model SOIC300-28 (28-Pin Small Outline Integrated Circuit 1.27 mm Pitch)
pins: 1 ~{MCLR}/VPP (in), 2 RA0/AN0 (io), 3 RA1/AN1 (io), 4 RA2/AN2/VREF- (io), 5 RA3/AN3/VREF+ (io), 6 RA4/T0CKI (io), 7 RA5/AN4/~{SS}/LVDIN (io), 8 VSS (power), 9 OSC1/CLKI (in), 10 OSC2/CLKO/RA6 (io), 11 RC0/T13CKI (io), 12 PWM2 (out), 13 PWM1 (out), 14 RC3/SCK/SCL (io), 15 RC4/SDI/SDA (io), 16 RC5/SDO (io), 17 RC6/TX/CK (io), 18 RC7/RX/DT (io), 19 VSS (power), 20 VDD (power), 21 RB0/INT0 (io), 22 RB1/INT1 (io), 23 RB2/INT2 (io), 24 RB3 (io), 25 RB4 (io), 26 RB5/PGM (io), 27 RB6/PGC (io), 28 RB7/PGD (io)

## PIC18LF2439-I/SP
designator U?
Enhanced FLASH Microcontroller with Single Phase Induction Motor Control Kernel, 12K FLASH, 28-Pin Skinny PDIP, Wide Volt Range, Industrial Temperature; Published: 11-Oct-2004; LatestRevisionDate: 04-Mar-2005; LatestRevisionNote: Stylized 3D Model Added.; DatasheetVersion: DS30485A_2002; PackageVersion: 2003; PackageReference: PDIP300-28; Publisher: Altium Limited; PackageDescription: DIP, Plastic, Skinny; 28 Leads; Row Spacing 7.62 mm; Pitch 2.54 mm; Code_JEDEC: MO-095; ComponentLink1Description: Manufacturer Link; ComponentLink1URL: http://www.microchip.com; ComponentLink2Description: Datasheet; ComponentLink2URL: http://ww1.microchip.com/downloads/en/DeviceDoc/30485a.pdf; ComponentLink3Description: Packaging Specification; ComponentLink3URL: http://ww1.microchip.com/downloads/en/PackagingSpec/00049AD.pdf
footprint PDIP300-28 (DIP, Plastic, Skinny; 28 Leads; Row Spacing 7.62 mm; Pitch 2.54 mm)
3D model PDIP300-28 (DIP, Plastic, Skinny; 28 Leads; Row Spacing 7.62 mm; Pitch 2.54 mm)
pins: 1 ~{MCLR}/VPP (in), 2 RA0/AN0 (io), 3 RA1/AN1 (io), 4 RA2/AN2/VREF- (io), 5 RA3/AN3/VREF+ (io), 6 RA4/T0CKI (io), 7 RA5/AN4/~{SS}/LVDIN (io), 8 VSS (power), 9 OSC1/CLKI (in), 10 OSC2/CLKO/RA6 (io), 11 RC0/T13CKI (io), 12 PWM2 (out), 13 PWM1 (out), 14 RC3/SCK/SCL (io), 15 RC4/SDI/SDA (io), 16 RC5/SDO (io), 17 RC6/TX/CK (io), 18 RC7/RX/DT (io), 19 VSS (power), 20 VDD (power), 21 RB0/INT0 (io), 22 RB1/INT1 (io), 23 RB2/INT2 (io), 24 RB3 (io), 25 RB4 (io), 26 RB5/PGM (io), 27 RB6/PGC (io), 28 RB7/PGD (io)

## PIC18LF2439T-I/SO
designator U?
Enhanced FLASH Microcontroller with Single Phase Induction Motor Control Kernel, 12K FLASH, 28-Pin SOIC, Wide Volt Range, Industrial Temperature, Tape and Reel; Published: 11-Oct-2004; LatestRevisionDate: 13-Apr-2006; LatestRevisionNote: IPC-7351 Footprint Added.; DatasheetVersion: DS30485A_2002; PackageVersion: 2005; PackageReference: SOIC300-28; Publisher: Altium Limited; PackageDescription: 28-Pin Small Outline Integrated Circuit 1.27 mm Pitch; Code_JEDEC: MS-013; ComponentLink1Description: Manufacturer Link; ComponentLink1URL: http://www.microchip.com; ComponentLink2Description: Datasheet; ComponentLink2URL: http://ww1.microchip.com/downloads/en/DeviceDoc/30485a.pdf; ComponentLink3Description: Packaging Specification; ComponentLink3URL: http://ww1.microchip.com/downloads/en/PackagingSpec/00049AD.pdf
footprint SOIC300-28_N (SOIC, 28-Leads, Body 17.9x7.5mm, Pitch 1.27mm, IPC Medium Density)
footprint SOIC300-28_L (SOIC, 28-Leads, Body 17.9x7.5mm, Pitch 1.27mm, IPC High Density)
footprint SOIC300-28_M (SOIC, 28-Leads, Body 17.9x7.5mm, Pitch 1.27mm, IPC Low Density)
3D model SOIC300-28 (28-Pin Small Outline Integrated Circuit 1.27 mm Pitch)
pins: 1 ~{MCLR}/VPP (in), 2 RA0/AN0 (io), 3 RA1/AN1 (io), 4 RA2/AN2/VREF- (io), 5 RA3/AN3/VREF+ (io), 6 RA4/T0CKI (io), 7 RA5/AN4/~{SS}/LVDIN (io), 8 VSS (power), 9 OSC1/CLKI (in), 10 OSC2/CLKO/RA6 (io), 11 RC0/T13CKI (io), 12 PWM2 (out), 13 PWM1 (out), 14 RC3/SCK/SCL (io), 15 RC4/SDI/SDA (io), 16 RC5/SDO (io), 17 RC6/TX/CK (io), 18 RC7/RX/DT (io), 19 VSS (power), 20 VDD (power), 21 RB0/INT0 (io), 22 RB1/INT1 (io), 23 RB2/INT2 (io), 24 RB3 (io), 25 RB4 (io), 26 RB5/PGM (io), 27 RB6/PGC (io), 28 RB7/PGD (io)

## PIC18LF2539-I/SO
designator U?
Enhanced FLASH Microcontroller with Single Phase Induction Motor Control Kernel, 24K FLASH, 28-Pin SOIC, Wide Volt Range, Industrial Temperature; Published: 11-Oct-2004; LatestRevisionDate: 13-Apr-2006; LatestRevisionNote: IPC-7351 Footprint Added.; DatasheetVersion: DS30485A_2002; PackageVersion: 2005; PackageReference: SOIC300-28; Publisher: Altium Limited; PackageDescription: 28-Pin Small Outline Integrated Circuit 1.27 mm Pitch; Code_JEDEC: MS-013; ComponentLink1Description: Manufacturer Link; ComponentLink1URL: http://www.microchip.com; ComponentLink2Description: Datasheet; ComponentLink2URL: http://ww1.microchip.com/downloads/en/DeviceDoc/30485a.pdf; ComponentLink3Description: Packaging Specification; ComponentLink3URL: http://ww1.microchip.com/downloads/en/PackagingSpec/00049AD.pdf
footprint SOIC300-28_N (SOIC, 28-Leads, Body 17.9x7.5mm, Pitch 1.27mm, IPC Medium Density)
footprint SOIC300-28_L (SOIC, 28-Leads, Body 17.9x7.5mm, Pitch 1.27mm, IPC High Density)
footprint SOIC300-28_M (SOIC, 28-Leads, Body 17.9x7.5mm, Pitch 1.27mm, IPC Low Density)
3D model SOIC300-28 (28-Pin Small Outline Integrated Circuit 1.27 mm Pitch)
pins: 1 ~{MCLR}/VPP (in), 2 RA0/AN0 (io), 3 RA1/AN1 (io), 4 RA2/AN2/VREF- (io), 5 RA3/AN3/VREF+ (io), 6 RA4/T0CKI (io), 7 RA5/AN4/~{SS}/LVDIN (io), 8 VSS (power), 9 OSC1/CLKI (in), 10 OSC2/CLKO/RA6 (io), 11 RC0/T13CKI (io), 12 PWM2 (out), 13 PWM1 (out), 14 RC3/SCK/SCL (io), 15 RC4/SDI/SDA (io), 16 RC5/SDO (io), 17 RC6/TX/CK (io), 18 RC7/RX/DT (io), 19 VSS (power), 20 VDD (power), 21 RB0/INT0 (io), 22 RB1/INT1 (io), 23 RB2/INT2 (io), 24 RB3 (io), 25 RB4 (io), 26 RB5/PGM (io), 27 RB6/PGC (io), 28 RB7/PGD (io)

## PIC18LF2539-I/SP
designator U?
Enhanced FLASH Microcontroller with Single Phase Induction Motor Control Kernel, 24K FLASH, 28-Pin Skinny PDIP, Wide Volt Range, Industrial Temperature; Published: 11-Oct-2004; LatestRevisionDate: 04-Mar-2005; LatestRevisionNote: Stylized 3D Model Added.; DatasheetVersion: DS30485A_2002; PackageVersion: 2003; PackageReference: PDIP300-28; Publisher: Altium Limited; PackageDescription: DIP, Plastic, Skinny; 28 Leads; Row Spacing 7.62 mm; Pitch 2.54 mm; Code_JEDEC: MO-095; ComponentLink1Description: Manufacturer Link; ComponentLink1URL: http://www.microchip.com; ComponentLink2Description: Datasheet; ComponentLink2URL: http://ww1.microchip.com/downloads/en/DeviceDoc/30485a.pdf; ComponentLink3Description: Packaging Specification; ComponentLink3URL: http://ww1.microchip.com/downloads/en/PackagingSpec/00049AD.pdf
footprint PDIP300-28 (DIP, Plastic, Skinny; 28 Leads; Row Spacing 7.62 mm; Pitch 2.54 mm)
3D model PDIP300-28 (DIP, Plastic, Skinny; 28 Leads; Row Spacing 7.62 mm; Pitch 2.54 mm)
pins: 1 ~{MCLR}/VPP (in), 2 RA0/AN0 (io), 3 RA1/AN1 (io), 4 RA2/AN2/VREF- (io), 5 RA3/AN3/VREF+ (io), 6 RA4/T0CKI (io), 7 RA5/AN4/~{SS}/LVDIN (io), 8 VSS (power), 9 OSC1/CLKI (in), 10 OSC2/CLKO/RA6 (io), 11 RC0/T13CKI (io), 12 PWM2 (out), 13 PWM1 (out), 14 RC3/SCK/SCL (io), 15 RC4/SDI/SDA (io), 16 RC5/SDO (io), 17 RC6/TX/CK (io), 18 RC7/RX/DT (io), 19 VSS (power), 20 VDD (power), 21 RB0/INT0 (io), 22 RB1/INT1 (io), 23 RB2/INT2 (io), 24 RB3 (io), 25 RB4 (io), 26 RB5/PGM (io), 27 RB6/PGC (io), 28 RB7/PGD (io)